# Altium footprint library Pattern No3d 20090609.PcbLib: 323 footprints (part 13 of 22)
Each footprint in its own frame and in the unit in brackets; x right, y up, seen from the top. Pads: shape width x height; smd on the part's side, far side on the other; paste and mask are expansions set on the pad; w line width, h text height; cw(c..) or ccw(c..) is an arc to the next point about the centre after c.
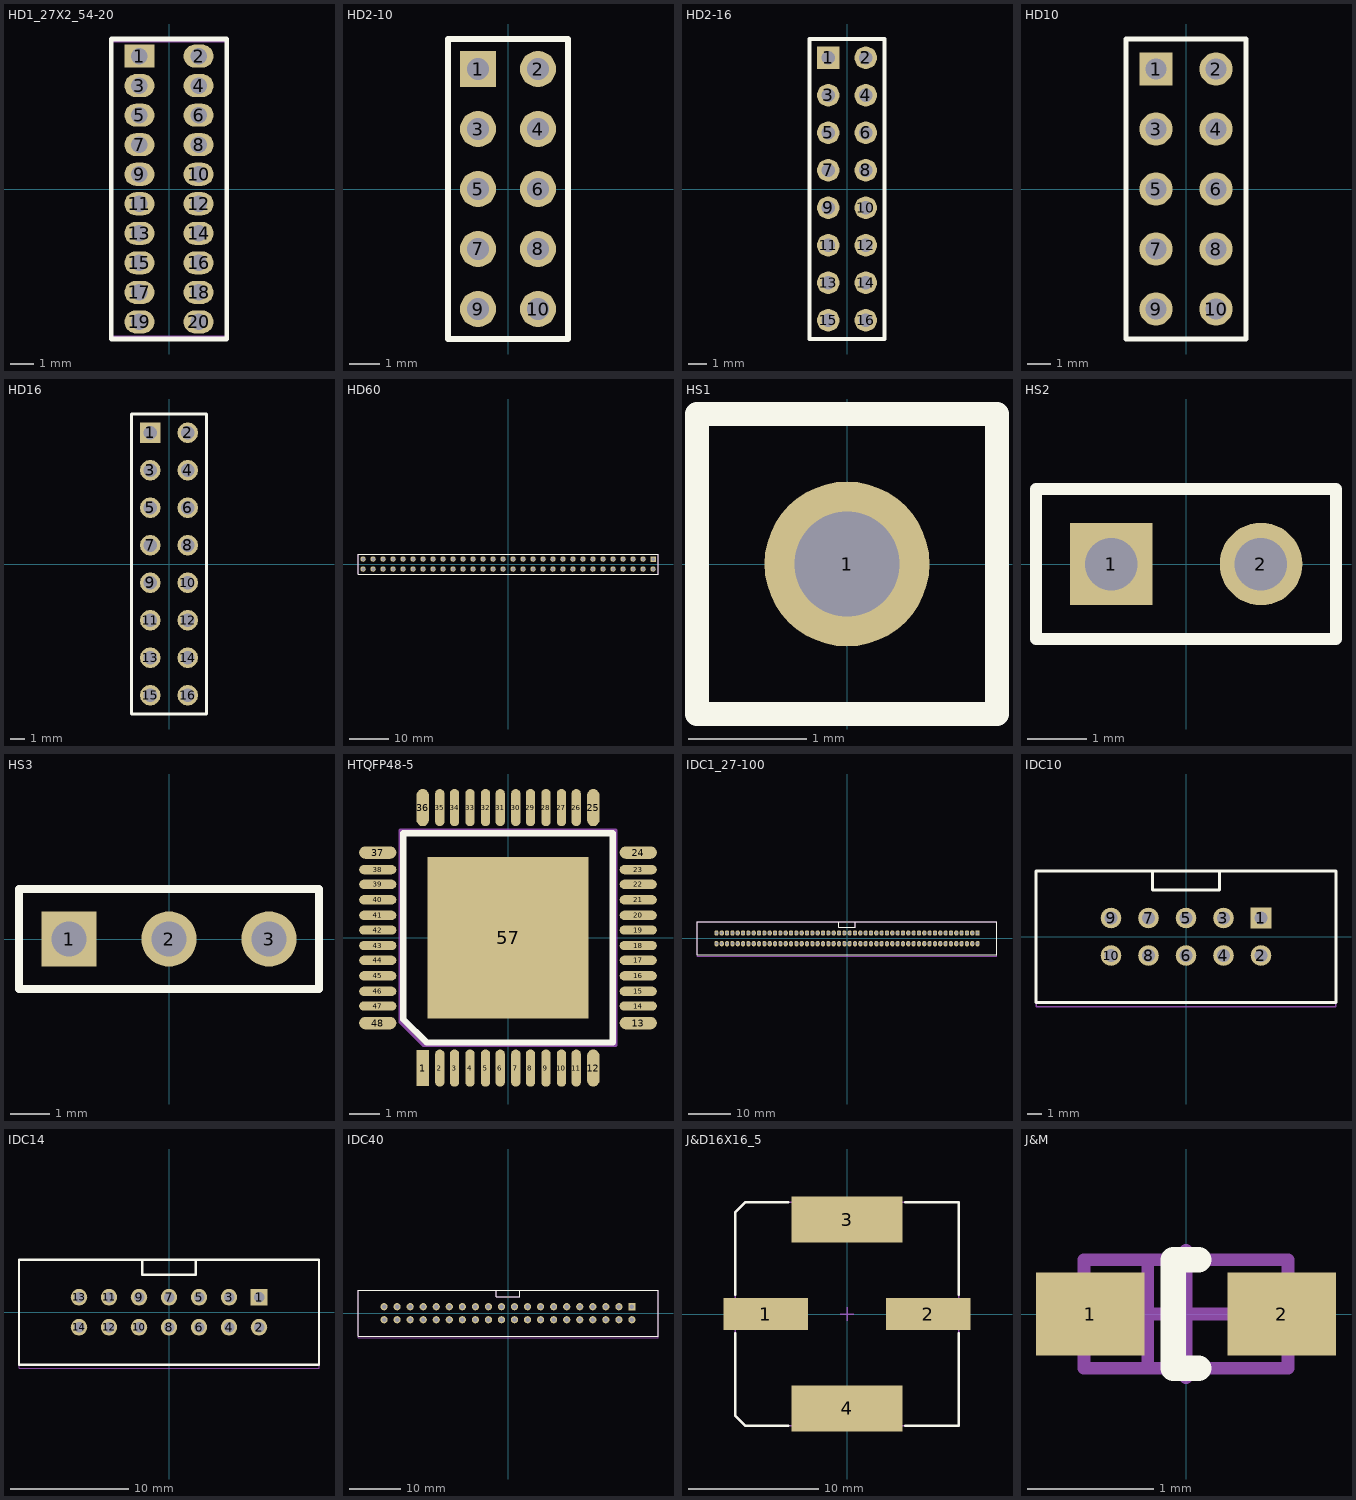
[diagram p12: the footprints below, top view; thin cyan lines are the x and y axes]

## HD1_27X2_54-20 [mil] "http://www.is-components.de/e-tec/PCB_Steckverbinder/katalog/14+17+37+56.pdf (SL 2 Contacts 20)"
pads (20):
  rect 51x39 hole 28 mask-1000: 1(-50,225)
  oval 51x39 hole 28 mask-1000: 2(50,225) 3(-50,175) 4(50,175) 5(-50,125) 6(50,125) 7(-50,75) 8(50,75) 9(-50,25) 10(50,25) 11(-50,-25) 12(50,-25) 13(-50,-75) 14(50,-75) 15(-50,-125) 16(50,-125) 17(-50,-175) 18(50,-175) 19(-50,-225) 20(50,-225)
Top Overlay:
  lines w8: -98,-254 -98,254 98,254 98,-254 -98,-254
Top Solder:
  region: -20.5,203.5 -20.5,248.5 -79.5,248.5 -79.5,203.5
  lines w43: -58,-225 -42,-225 ; -58,-175 -42,-175 ; -58,-125 -42,-125 ; -58,-75 -42,-75 ; -58,-25 -42,-25 ; -58,25 -42,25 ; -58,75 -42,75 ; -58,125 -42,125 ; -58,175 -42,175 ; 42,-225 58,-225 ; 42,-175 58,-175 ; 42,-125 58,-125 ; 42,-75 58,-75 ; 42,-25 58,-25 ; 42,25 58,25 ; 42,75 58,75 ; 42,125 58,125 ; 42,175 58,175 ; 42,225 58,225
Bottom Solder:
  region: -20.5,203.5 -20.5,248.5 -79.5,248.5 -79.5,203.5
  lines w43: -58,-225 -42,-225 ; -58,-175 -42,-175 ; -58,-125 -42,-125 ; -58,-75 -42,-75 ; -58,-25 -42,-25 ; -58,25 -42,25 ; -58,75 -42,75 ; -58,125 -42,125 ; -58,175 -42,175 ; 42,-225 58,-225 ; 42,-175 58,-175 ; 42,-125 58,-125 ; 42,-75 58,-75 ; 42,-25 58,-25 ; 42,25 58,25 ; 42,75 58,75 ; 42,125 58,125 ; 42,175 58,175 ; 42,225 58,225
Mechanical 1:
  lines w4: -98,-250 -98,250 98,250 98,-250 -98,-250

## HD2-10 [mil] "http://www.harwin.com/include/downloads/drawings/M22-252.PDF (10 Way)"
pads (10):
  rect 47x47 hole 28 mask+4: 1(-39,156)
  round 47 hole 28 mask+4: 2(39,156) 3(-39,78) 4(39,78) 5(-39,0) 6(39,0) 7(-39,-78) 8(39,-78) 9(-39,-156) 10(39,-156)
Top Overlay:
  lines w8: -78,-195 -78,195 78,195 78,-195 -78,-195
Mechanical 1:
  lines w4: -78,-195 -78,195 78,195 78,-195 -78,-195

## HD2-16 [mil] "http://www.harwin.com/include/downloads/drawings/M22-252.PDF (16 Way)"
pads (16):
  rect 47x47 hole 28 mask+4: 1(-39,273)
  round 47 hole 28 mask+4: 2(39,273) 3(-39,195) 4(39,195) 5(-39,117) 6(39,117) 7(-39,39) 8(39,39) 9(-39,-39) 10(39,-39) 11(-39,-117) 12(39,-117) 13(-39,-195) 14(39,-195) 15(-39,-273) 16(39,-273)
Top Overlay:
  lines w8: -78,-312 -78,312 78,312 78,-312 -78,-312
Mechanical 1:
  lines w4: -78,-312 -78,312 78,312 78,-312 -78,-312

## HD10 [mil] "http://www.harwin.com/include/downloads/drawings/M20-972.PDF (10 Way)"
pads (10):
  rect 55x55 hole 35 mask+4: 1(-50,200)
  round 55 hole 35 mask+4: 2(50,200) 3(-50,100) 4(50,100) 5(-50,0) 6(50,0) 7(-50,-100) 8(50,-100) 9(-50,-200) 10(50,-200)
Top Overlay:
  lines w8: -100,-250 100,-250 100,250 -100,250 -100,-250
Mechanical 1:
  lines w4: -100,-250 100,-250 100,250 -100,250 -100,-250

## HD16 [mil] "http://www.harwin.com/include/downloads/drawings/M20-972.PDF (16 Way)"
pads (16):
  rect 55x55 hole 35 mask+4: 1(-50,350)
  round 55 hole 35 mask+4: 2(50,350) 3(-50,250) 4(50,250) 5(-50,150) 6(50,150) 7(-50,50) 8(50,50) 9(-50,-50) 10(50,-50) 11(-50,-150) 12(50,-150) 13(-50,-250) 14(50,-250) 15(-50,-350) 16(50,-350)
Top Overlay:
  lines w8: -100,-400 100,-400 100,400 -100,400 -100,-400
Mechanical 1:
  lines w4: -100,-400 100,-400 100,400 -100,400 -100,-400

## HD60 [mil] "http://www.harwin.com/include/downloads/drawings/M20-972.PDF (60 Way)"
pads (60):
  rect 55x55 hole 35 mask+4: 1(1450,50)
  round 55 hole 35 mask+4: 2(1450,-50) 3(1350,50) 4(1350,-50) 5(1250,50) 6(1250,-50) 7(1150,50) 8(1150,-50) 9(1050,50) 10(1050,-50) 11(950,50) 12(950,-50) 13(850,50) 14(850,-50) 15(750,50) 16(750,-50) 17(650,50) 18(650,-50) 19(550,50) 20(550,-50) 21(450,50) 22(450,-50) 23(350,50) 24(350,-50) 25(250,50) 26(250,-50) 27(150,50) 28(150,-50) 29(50,50) 30(50,-50) 31(-50,50) 32(-50,-50) 33(-150,50) 34(-150,-50) 35(-250,50) 36(-250,-50) 37(-350,50) 38(-350,-50) 39(-450,50) 40(-450,-50) 41(-550,50) 42(-550,-50) 43(-650,50) 44(-650,-50) 45(-750,50) 46(-750,-50) 47(-850,50) 48(-850,-50) 49(-950,50) 50(-950,-50) 51(-1050,50) 52(-1050,-50) 53(-1150,50) 54(-1150,-50) 55(-1250,50) 56(-1250,-50) 57(-1350,50) 58(-1350,-50) 59(-1450,50) 60(-1450,-50)
Top Overlay:
  lines w8: -1500,-100 -1500,100 1500,100 1500,-100 -1500,-100
Mechanical 1:
  lines w4: -1500,-100 -1500,100 1500,100 1500,-100 -1500,-100

## HS1 [mil] "http://www.harwin.com/include/downloads/drawings/M20-973.PDF (1 Way)"
pads (1):
  round 55 hole 35 mask+4: 1(0,0)
Top Overlay:
  lines w8: -50,-50 -50,50 50,50 50,-50 -50,-50
Mechanical 1:
  lines w4: -50,-50 -50,50 50,50 50,-50 -50,-50

## HS2 [mil] "http://www.harwin.com/include/downloads/drawings/M20-973.PDF (2 Way)"
pads (2):
  rect 55x55 hole 35 mask+4: 1(-50,0)
  round 55 hole 35 mask+4: 2(50,0)
Top Overlay:
  lines w8: -100,-50 -100,50 100,50 100,-50 -100,-50
Mechanical 1:
  lines w4: -100,-50 -100,50 100,50 100,-50 -100,-50

## HS3 [mil] "http://www.harwin.com/include/downloads/drawings/M20-973.PDF (3 Way)"
pads (3):
  rect 55x55 hole 35 mask+4: 1(-100,0)
  round 55 hole 35 mask+4: 2(0,0) 3(100,0)
Top Overlay:
  lines w8: -150,-50 150,-50 150,50 -150,50 -150,-50
Mechanical 1:
  lines w4: -150,-50 150,-50 150,50 -150,50 -150,-50

## HTQFP48-5 [mil] "http://www.nxp.com/acrobat_download/packages/SOT545-1.pdf"
pads (49):
  rect 16x46 smd mask-1000: 1(-110,-168)
  oval 12x48 smd mask-1000: 2(-88,-168) 3(-69,-168) 4(-49,-168) 5(-29,-168) 6(-10,-168) 7(10,-168) 8(29,-168) 9(49,-168) 10(69,-168) 11(88,-168) 26(88,168) 27(69,168) 28(49,168) 29(29,168) 30(10,168) 31(-10,168) 32(-29,168) 33(-49,168) 34(-69,168) 35(-88,168)
  oval 16x48 smd mask-1000: 12(110,-168) 25(110,168) 36(-110,168)
  oval 48x16 smd mask-1000: 13(168,-110) 24(168,110) 37(-168,110) 48(-168,-110)
  oval 48x12 smd mask-1000: 14(168,-88) 15(168,-69) 16(168,-49) 17(168,-29) 18(168,-10) 19(168,10) 20(168,29) 21(168,49) 22(168,69) 23(168,88) 38(-168,88) 39(-168,69) 40(-168,49) 41(-168,29) 42(-168,10) 43(-168,-10) 44(-168,-29) 45(-168,-49) 46(-168,-69) 47(-168,-88)
  rect 208x208 smd paste-1000 mask+4: 57(0,0)
Top Overlay:
  lines w8: -135,-105 -105,-135 135,-135 135,135 -135,135 -135,-105
Top Paste:
  region: 66,46 66,10 102,10 102,46
  region: 66,-10 66,-46 102,-46 102,-10
  region: 66,-66 66,-102 102,-102 102,-66
  region: 10,46 10,10 46,10 46,46
  region: 10,-10 10,-46 46,-46 46,-10
  region: 10,-66 10,-102 46,-102 46,-66
  region: -46,46 -46,10 -10,10 -10,46
  region: -46,-10 -46,-46 -10,-46 -10,-10
  region: -46,-66 -46,-102 -10,-102 -10,-66
  region: -102,46 -102,10 -66,10 -66,46
  region: -102,-10 -102,-46 -66,-46 -66,-10
  region: -102,-66 -102,-102 -66,-102 -66,-66
  region: 66,66 102,66 102,102 66,102
  region: 10,66 46,66 46,102 10,102
  region: -46,66 -10,66 -10,102 -46,102
  region: -102,66 -66,66 -66,102 -102,102
Top Solder:
  region: -101,-195 -101,-141 -121,-141 -121,-195
  lines w14: -189,-88 -147,-88 ; -189,-69 -147,-69 ; -189,-49 -147,-49 ; -189,-29 -147,-29 ; -189,-10 -147,-10 ; -189,10 -147,10 ; -189,29 -147,29 ; -189,49 -147,49 ; -189,69 -147,69 ; -189,88 -147,88 ; -88,-189 -88,-147 ; -88,147 -88,189 ; -69,-189 -69,-147 ; -69,147 -69,189 ; -49,-189 -49,-147 ; -49,147 -49,189 ; -29,-189 -29,-147 ; -29,147 -29,189 ; -10,-189 -10,-147 ; -10,147 -10,189 ; 10,-189 10,-147 ; 10,147 10,189 ; 29,-189 29,-147 ; 29,147 29,189 ; 49,-189 49,-147 ; 49,147 49,189 ; 69,-189 69,-147 ; 69,147 69,189 ; 88,-189 88,-147 ; 88,147 88,189 ; 147,-88 189,-88 ; 147,-69 189,-69 ; 147,-49 189,-49 ; 147,-29 189,-29 ; 147,-10 189,-10 ; 147,10 189,10 ; 147,29 189,29 ; 147,49 189,49 ; 147,69 189,69 ; 147,88 189,88
  lines w20: -186,-111 -150,-111 ; -186,111 -150,111 ; -111,150 -111,186 ; 111,-186 111,-150 ; 111,150 111,186 ; 150,-111 186,-111 ; 150,111 186,111
Mechanical 1:
  lines w4: -139,-109 -109,-139 139,-139 139,139 -139,139 -139,-109
Mechanical 15:
  lines w4: -20,0 20,0 ; 0,-20 0,20

## IDC1_27-100 [mil] "http://www.4uconnector.com/online/object/4udrawing/06644.pdf (Circuits 100)"
pads (100):
  rect 39x51 hole 28 mask-1000: 1(1225,50)
  oval 39x51 hole 28 mask-1000: 2(1225,-50) 3(1175,50) 4(1175,-50) 5(1125,50) 6(1125,-50) 7(1075,50) 8(1075,-50) 9(1025,50) 10(1025,-50) 11(975,50) 12(975,-50) 13(925,50) 14(925,-50) 15(875,50) 16(875,-50) 17(825,50) 18(825,-50) 19(775,50) 20(775,-50) 21(725,50) 22(725,-50) 23(675,50) 24(675,-50) 25(625,50) 26(625,-50) 27(575,50) 28(575,-50) 29(525,50) 30(525,-50) 31(475,50) 32(475,-50) 33(425,50) 34(425,-50) 35(375,50) 36(375,-50) 37(325,50) 38(325,-50) 39(275,50) 40(275,-50) 41(225,50) 42(225,-50) 43(175,50) 44(175,-50) 45(125,50) 46(125,-50) 47(75,50) 48(75,-50) 49(25,50) 50(25,-50) 51(-25,50) 52(-25,-50) 53(-75,50) 54(-75,-50) 55(-125,50) 56(-125,-50) 57(-175,50) 58(-175,-50) 59(-225,50) 60(-225,-50) 61(-275,50) 62(-275,-50) 63(-325,50) 64(-325,-50) 65(-375,50) 66(-375,-50) 67(-425,50) 68(-425,-50) 69(-475,50) 70(-475,-50) 71(-525,50) 72(-525,-50) 73(-575,50) 74(-575,-50) 75(-625,50) 76(-625,-50) 77(-675,50) 78(-675,-50) 79(-725,50) 80(-725,-50) 81(-775,50) 82(-775,-50) 83(-825,50) 84(-825,-50) 85(-875,50) 86(-875,-50) 87(-925,50) 88(-925,-50) 89(-975,50) 90(-975,-50) 91(-1025,50) 92(-1025,-50) 93(-1075,50) 94(-1075,-50) 95(-1125,50) 96(-1125,-50) 97(-1175,50) 98(-1175,-50) 99(-1225,50) 100(-1225,-50)
Top Overlay:
  lines w8: -79,155 -79,105 79,105 79,155 ; -1407,-155 1407,-155 1407,155 -1407,155 -1407,-155
Top Solder:
  region: 1203.5,20.5 1248.5,20.5 1248.5,79.5 1203.5,79.5
  lines w43: -1225,-58 -1225,-42 ; -1225,42 -1225,58 ; -1175,-58 -1175,-42 ; -1175,42 -1175,58 ; -1125,-58 -1125,-42 ; -1125,42 -1125,58 ; -1075,-58 -1075,-42 ; -1075,42 -1075,58 ; -1025,-58 -1025,-42 ; -1025,42 -1025,58 ; -975,-58 -975,-42 ; -975,42 -975,58 ; -925,-58 -925,-42 ; -925,42 -925,58 ; -875,-58 -875,-42 ; -875,42 -875,58 ; -825,-58 -825,-42 ; -825,42 -825,58 ; -775,-58 -775,-42 ; -775,42 -775,58 ; -725,-58 -725,-42 ; -725,42 -725,58 ; -675,-58 -675,-42 ; -675,42 -675,58 ; -625,-58 -625,-42 ; -625,42 -625,58 ; -575,-58 -575,-42 ; -575,42 -575,58 ; -525,-58 -525,-42 ; -525,42 -525,58 ; -475,-58 -475,-42 ; -475,42 -475,58 ; -425,-58 -425,-42 ; -425,42 -425,58 ; -375,-58 -375,-42 ; -375,42 -375,58 ; -325,-58 -325,-42 ; -325,42 -325,58 ; -275,-58 -275,-42 ; -275,42 -275,58 ; -225,-58 -225,-42 ; -225,42 -225,58 ; -175,-58 -175,-42 ; -175,42 -175,58 ; -125,-58 -125,-42 ; -125,42 -125,58 ; -75,-58 -75,-42 ; -75,42 -75,58 ; -25,-58 -25,-42 ; -25,42 -25,58 ; 25,-58 25,-42 ; 25,42 25,58 ; 75,-58 75,-42 ; 75,42 75,58 ; 125,-58 125,-42 ; 125,42 125,58 ; 175,-58 175,-42 ; 175,42 175,58 ; 225,-58 225,-42 ; 225,42 225,58 ; 275,-58 275,-42 ; 275,42 275,58 ; 325,-58 325,-42 ; 325,42 325,58 ; 375,-58 375,-42 ; 375,42 375,58 ; 425,-58 425,-42 ; 425,42 425,58 ; 475,-58 475,-42 ; 475,42 475,58 ; 525,-58 525,-42 ; 525,42 525,58 ; 575,-58 575,-42 ; 575,42 575,58 ; 625,-58 625,-42 ; 625,42 625,58 ; 675,-58 675,-42 ; 675,42 675,58 ; 725,-58 725,-42 ; 725,42 725,58 ; 775,-58 775,-42 ; 775,42 775,58 ; 825,-58 825,-42 ; 825,42 825,58 ; 875,-58 875,-42 ; 875,42 875,58 ; 925,-58 925,-42 ; 925,42 925,58 ; 975,-58 975,-42 ; 975,42 975,58 ; 1025,-58 1025,-42 ; 1025,42 1025,58 ; 1075,-58 1075,-42 ; 1075,42 1075,58 ; 1125,-58 1125,-42 ; 1125,42 1125,58 ; 1175,-58 1175,-42 ; 1175,42 1175,58 ; 1225,-58 1225,-42
Bottom Solder:
  region: 1203.5,20.5 1248.5,20.5 1248.5,79.5 1203.5,79.5
  lines w43: -1225,-58 -1225,-42 ; -1225,42 -1225,58 ; -1175,-58 -1175,-42 ; -1175,42 -1175,58 ; -1125,-58 -1125,-42 ; -1125,42 -1125,58 ; -1075,-58 -1075,-42 ; -1075,42 -1075,58 ; -1025,-58 -1025,-42 ; -1025,42 -1025,58 ; -975,-58 -975,-42 ; -975,42 -975,58 ; -925,-58 -925,-42 ; -925,42 -925,58 ; -875,-58 -875,-42 ; -875,42 -875,58 ; -825,-58 -825,-42 ; -825,42 -825,58 ; -775,-58 -775,-42 ; -775,42 -775,58 ; -725,-58 -725,-42 ; -725,42 -725,58 ; -675,-58 -675,-42 ; -675,42 -675,58 ; -625,-58 -625,-42 ; -625,42 -625,58 ; -575,-58 -575,-42 ; -575,42 -575,58 ; -525,-58 -525,-42 ; -525,42 -525,58 ; -475,-58 -475,-42 ; -475,42 -475,58 ; -425,-58 -425,-42 ; -425,42 -425,58 ; -375,-58 -375,-42 ; -375,42 -375,58 ; -325,-58 -325,-42 ; -325,42 -325,58 ; -275,-58 -275,-42 ; -275,42 -275,58 ; -225,-58 -225,-42 ; -225,42 -225,58 ; -175,-58 -175,-42 ; -175,42 -175,58 ; -125,-58 -125,-42 ; -125,42 -125,58 ; -75,-58 -75,-42 ; -75,42 -75,58 ; -25,-58 -25,-42 ; -25,42 -25,58 ; 25,-58 25,-42 ; 25,42 25,58 ; 75,-58 75,-42 ; 75,42 75,58 ; 125,-58 125,-42 ; 125,42 125,58 ; 175,-58 175,-42 ; 175,42 175,58 ; 225,-58 225,-42 ; 225,42 225,58 ; 275,-58 275,-42 ; 275,42 275,58 ; 325,-58 325,-42 ; 325,42 325,58 ; 375,-58 375,-42 ; 375,42 375,58 ; 425,-58 425,-42 ; 425,42 425,58 ; 475,-58 475,-42 ; 475,42 475,58 ; 525,-58 525,-42 ; 525,42 525,58 ; 575,-58 575,-42 ; 575,42 575,58 ; 625,-58 625,-42 ; 625,42 625,58 ; 675,-58 675,-42 ; 675,42 675,58 ; 725,-58 725,-42 ; 725,42 725,58 ; 775,-58 775,-42 ; 775,42 775,58 ; 825,-58 825,-42 ; 825,42 825,58 ; 875,-58 875,-42 ; 875,42 875,58 ; 925,-58 925,-42 ; 925,42 925,58 ; 975,-58 975,-42 ; 975,42 975,58 ; 1025,-58 1025,-42 ; 1025,42 1025,58 ; 1075,-58 1075,-42 ; 1075,42 1075,58 ; 1125,-58 1125,-42 ; 1125,42 1125,58 ; 1175,-58 1175,-42 ; 1175,42 1175,58 ; 1225,-58 1225,-42
Mechanical 1:
  lines w4: -79,155 -79,105 79,105 79,155 ; -1407,-167 1407,-167 1407,155 -1407,155 -1407,-167

## IDC10 [mil] "http://sigma.octopart.com/504875/datasheet/Multicomp-MC9A12-1034.pdf (Position 10)"
pads (10):
  rect 55x55 hole 35 mask+4: 1(200,50)
  round 55 hole 35 mask+4: 2(200,-50) 3(100,50) 4(100,-50) 5(0,50) 6(0,-50) 7(-100,50) 8(-100,-50) 9(-200,50) 10(-200,-50)
Top Overlay:
  lines w8: -89,175 -89,125 89,125 89,175 ; -400,-175 -400,175 400,175 400,-175 -400,-175
Mechanical 1:
  lines w4: -89,175 -89,125 89,125 89,175 ; -400,-187 -400,175 400,175 400,-187 -400,-187

## IDC14 [mil] "http://sigma.octopart.com/504875/datasheet/Multicomp-MC9A12-1034.pdf (Position 14)"
pads (14):
  rect 55x55 hole 35 mask+4: 1(300,50)
  round 55 hole 35 mask+4: 2(300,-50) 3(200,50) 4(200,-50) 5(100,50) 6(100,-50) 7(0,50) 8(0,-50) 9(-100,50) 10(-100,-50) 11(-200,50) 12(-200,-50) 13(-300,50) 14(-300,-50)
Top Overlay:
  lines w8: -89,175 -89,125 89,125 89,175 ; -500,-175 -500,175 500,175 500,-175 -500,-175
Mechanical 1:
  lines w4: -89,175 -89,125 89,125 89,175 ; -500,-187 -500,175 500,175 500,-187 -500,-187

## IDC40 [mil] "http://sigma.octopart.com/504875/datasheet/Multicomp-MC9A12-1034.pdf (Position 40)"
pads (40):
  rect 55x55 hole 35 mask+4: 1(950,50)
  round 55 hole 35 mask+4: 2(950,-50) 3(850,50) 4(850,-50) 5(750,50) 6(750,-50) 7(650,50) 8(650,-50) 9(550,50) 10(550,-50) 11(450,50) 12(450,-50) 13(350,50) 14(350,-50) 15(250,50) 16(250,-50) 17(150,50) 18(150,-50) 19(50,50) 20(50,-50) 21(-50,50) 22(-50,-50) 23(-150,50) 24(-150,-50) 25(-250,50) 26(-250,-50) 27(-350,50) 28(-350,-50) 29(-450,50) 30(-450,-50) 31(-550,50) 32(-550,-50) 33(-650,50) 34(-650,-50) 35(-750,50) 36(-750,-50) 37(-850,50) 38(-850,-50) 39(-950,50) 40(-950,-50)
Top Overlay:
  lines w8: -89,175 -89,125 89,125 89,175 ; -1150,-175 1150,-175 1150,175 -1150,175 -1150,-175
Mechanical 1:
  lines w4: -89,175 -89,125 89,125 89,175 ; -1150,-187 1150,-187 1150,175 -1150,175 -1150,-187

## J&D16X16_5 [mil] "http://www.panasonic.com/industrial/components/pdf/ABA0000CE11.pdf (Size J16)"
pads (4):
  rect 256x98 smd mask+4: 1(-246,0) 2(246,0)
  rect 336x138 smd mask+4: 3(0,286) 4(0,-286)
Top Overlay:
  lines w8: -338,-58 -338,-308 -308,-338 -178,-338 ; -338,58 -338,308 -308,338 -178,338 ; 177,-338 338,-338 338,-58 ; 177,338 338,338 338,58
Mechanical 1:
  lines w4: -338,-308 -338,308 -308,338 338,338 338,-338 -308,-338 -338,-308
Mechanical 15:
  lines w4: -20,0 20,0 ; 0,-20 0,20

## J&M [mil] "http://www.nec-tokin.com/english/product/pdf_dl/capacitors.pdf (Case J)"
pads (2):
  rect 34x26 smd mask+4: 1(-30,0) 2(30,0)
Top Overlay:
  lines w8: 4,-17 -4,-17 -4,17 4,17
Mechanical 1:
  lines w4: -12,-17 -12,17 ; -32,-17 -32,17 32,17 32,-17 -32,-17
Mechanical 15:
  lines w4: -20,0 20,0 ; 0,-20 0,20